# Altium integrated library busbar.IntLib: 18 symbols
Pins are listed as number, name and electrical type; pins without a type are passive.

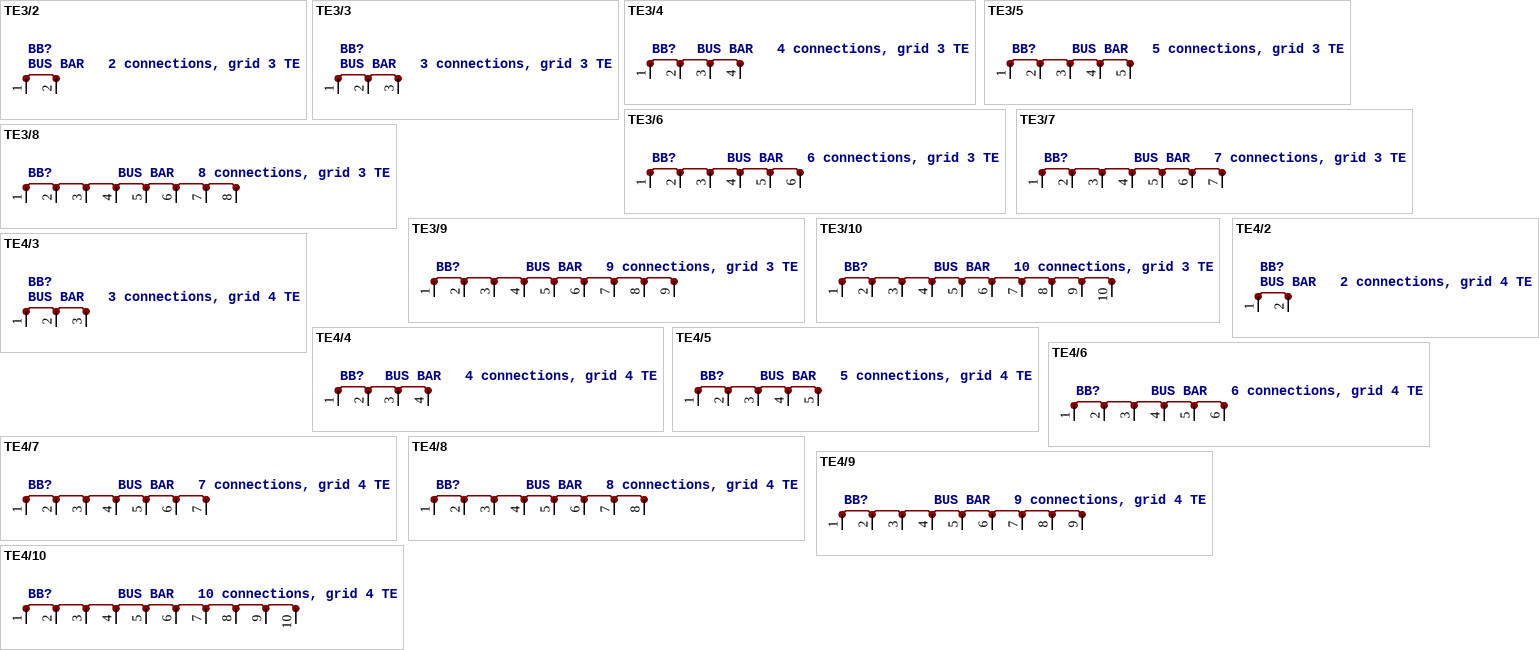
[diagram p0: symbols TE3/2 to TE4/10]

## TE3/2
designator BB?, comment BUS BAR   2 connections, grid 3 TE
footprint TE3/2
pins: 1 P@1, 2 P@2

## TE3/3
designator BB?, comment BUS BAR   3 connections, grid 3 TE
footprint TE3/3
pins: 1 P@1, 2 P@2, 3 P@3

## TE3/4
designator BB?, comment BUS BAR   4 connections, grid 3 TE
footprint TE3/4
pins: 1 P@1, 2 P@2, 3 P@3, 4 P@4

## TE3/5
designator BB?, comment BUS BAR   5 connections, grid 3 TE
footprint TE3/5
pins: 1 P@1, 2 P@2, 3 P@3, 4 P@4, 5 P@5

## TE3/6
designator BB?, comment BUS BAR   6 connections, grid 3 TE
footprint TE3/6
pins: 1 P@1, 2 P@2, 3 P@3, 4 P@4, 5 P@5, 6 P@6

## TE3/7
designator BB?, comment BUS BAR   7 connections, grid 3 TE
footprint TE3/7
pins: 1 P@1, 2 P@2, 3 P@3, 4 P@4, 5 P@5, 6 P@6, 7 P@7

## TE3/8
designator BB?, comment BUS BAR   8 connections, grid 3 TE
footprint TE3/8
pins: 1 P@1, 2 P@2, 3 P@3, 4 P@4, 5 P@5, 6 P@6, 7 P@7, 8 P@8

## TE3/9
designator BB?, comment BUS BAR   9 connections, grid 3 TE
footprint TE3/9
pins: 1 P@1, 2 P@2, 3 P@3, 4 P@4, 5 P@5, 6 P@6, 7 P@7, 8 P@8, 9 P@9

## TE3/10
designator BB?, comment BUS BAR   10 connections, grid 3 TE
footprint TE3/10
pins: 1 P@1, 2 P@2, 3 P@3, 4 P@4, 5 P@5, 6 P@6, 7 P@7, 8 P@8, 9 P@9, 10 P@10

## TE4/2
designator BB?, comment BUS BAR   2 connections, grid 4 TE
footprint TE4/2
pins: 1 P@1, 2 P@2

## TE4/3
designator BB?, comment BUS BAR   3 connections, grid 4 TE
footprint TE4/3
pins: 1 P@1, 2 P@2, 3 P@3

## TE4/4
designator BB?, comment BUS BAR   4 connections, grid 4 TE
footprint TE4/4
pins: 1 P@1, 2 P@2, 3 P@3, 4 P@4

## TE4/5
designator BB?, comment BUS BAR   5 connections, grid 4 TE
footprint TE4/5
pins: 1 P@1, 2 P@2, 3 P@3, 4 P@4, 5 P@5

## TE4/6
designator BB?, comment BUS BAR   6 connections, grid 4 TE
footprint TE4/6
pins: 1 P@1, 2 P@2, 3 P@3, 4 P@4, 5 P@5, 6 P@6

## TE4/7
designator BB?, comment BUS BAR   7 connections, grid 4 TE
footprint TE4/7
pins: 1 P@1, 2 P@2, 3 P@3, 4 P@4, 5 P@5, 6 P@6, 7 P@7

## TE4/8
designator BB?, comment BUS BAR   8 connections, grid 4 TE
footprint TE4/8
pins: 1 P@1, 2 P@2, 3 P@3, 4 P@4, 5 P@5, 6 P@6, 7 P@7, 8 P@8

## TE4/9
designator BB?, comment BUS BAR   9 connections, grid 4 TE
footprint TE4/9
pins: 1 P@1, 2 P@2, 3 P@3, 4 P@4, 5 P@5, 6 P@6, 7 P@7, 8 P@8, 9 P@9

## TE4/10
designator BB?, comment BUS BAR   10 connections, grid 4 TE
footprint TE4/10
pins: 1 P@1, 2 P@2, 3 P@3, 4 P@4, 5 P@5, 6 P@6, 7 P@7, 8 P@8, 9 P@9, 10 P@10